# Altium schematic symbol library pporyzala-TI_Lighting.SchLib: 745 symbols (part 10 of 48)
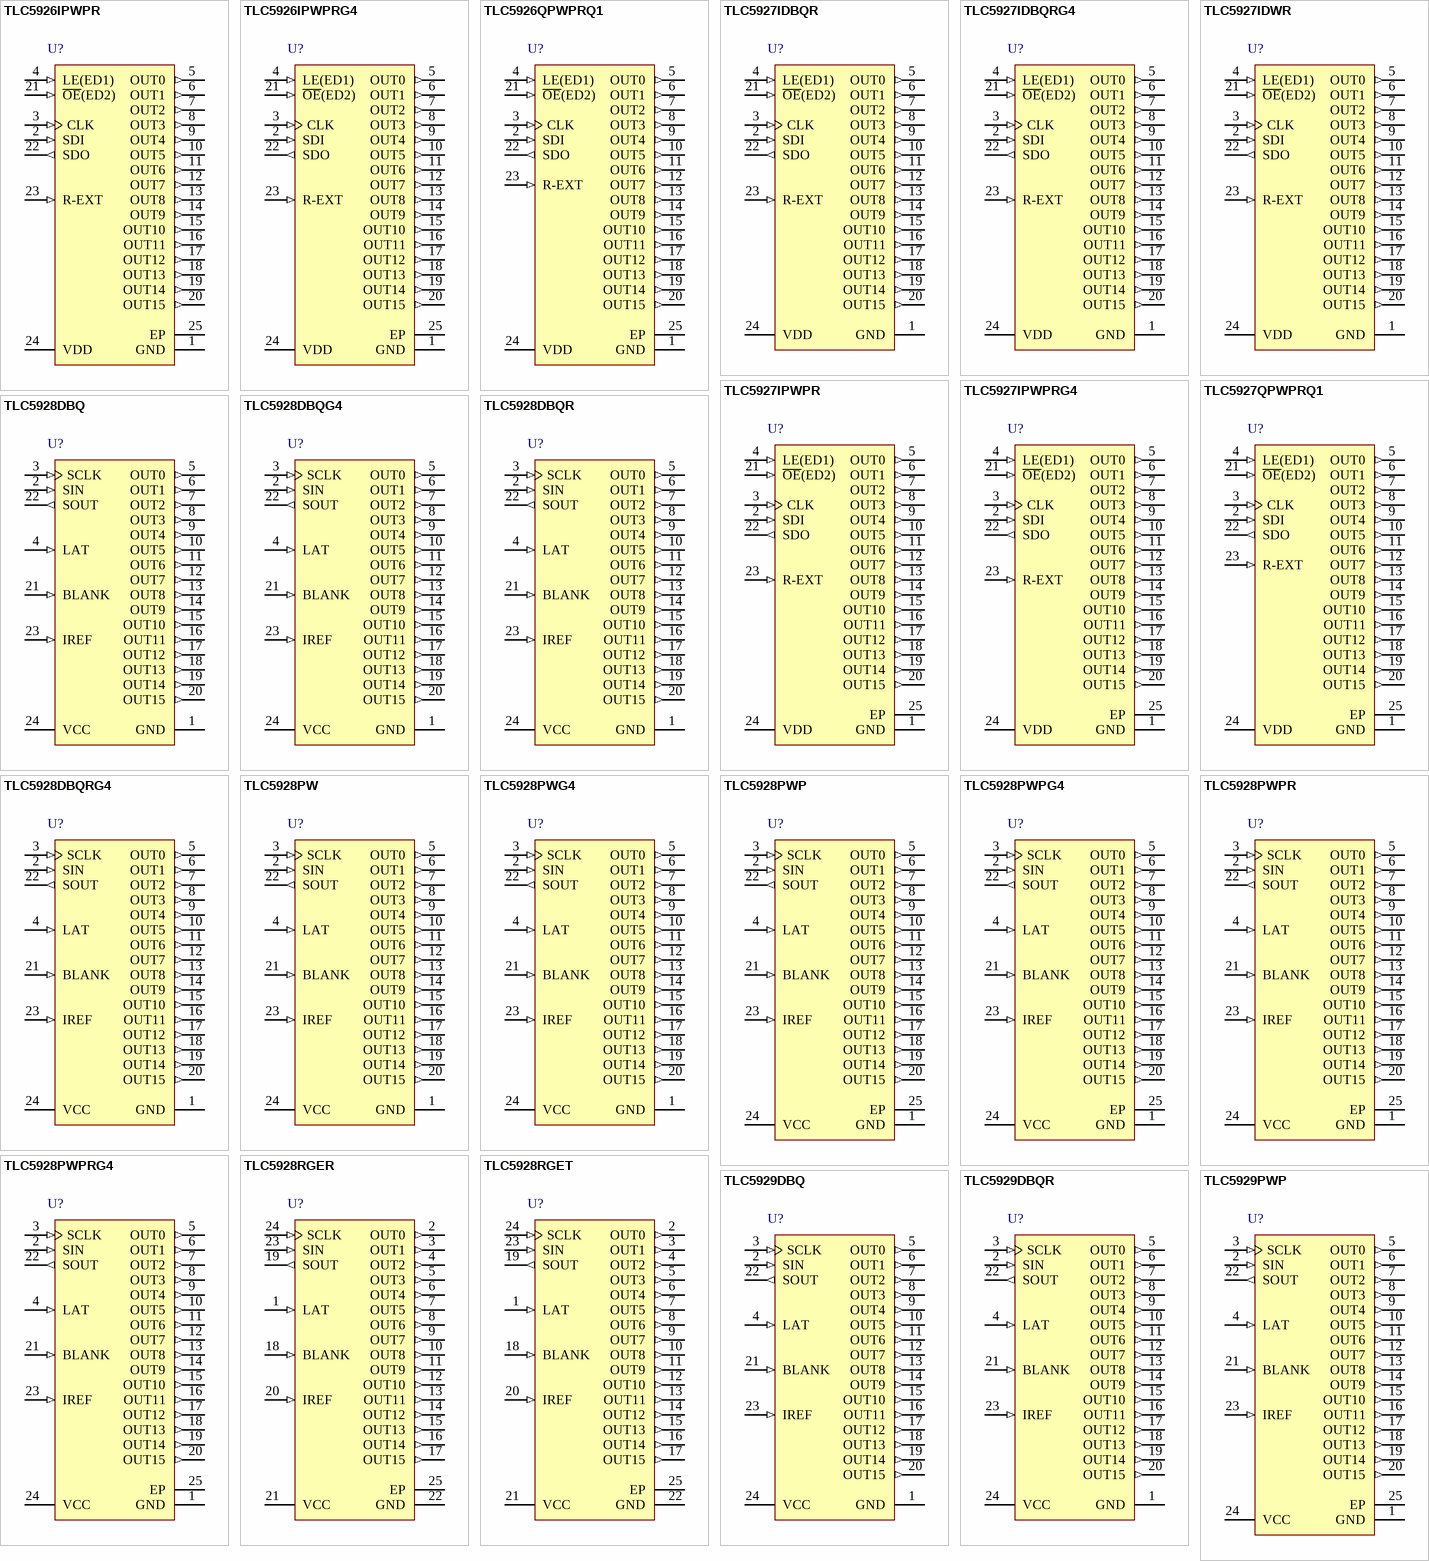
[diagram p40: symbols TLC5926IPWPR to TLC5929PWP]

## TLC5928DBQG4
designator U?
16-Channel Constant Current LED Driver with LED Open Detection, 3 to 5.5 V, -40 to 85 degC, 24-pin SOP (DBQ24), Green (RoHS & no Sb/Br); Manufacturer: Texas Instruments; PartNumber: TLC5928DBQG4; Rating: Catalog; Vin(Max)(V): 5.5; Vin(Min)(V): 3; DatasheetVersion: SBVS120E; PackageVersion: 4073301-4/H; PackageReference: DBQ24; PackageDescription: 24-Pin Plastic Small-Outline, Body 8.65 x 3.90 mm, Pitch 0.635 mm; Supplier 1: Digi-Key; Supplier Part Number 1: TLC5928DBQG4-ND; Supplier 2: Mouser; Supplier Part Number 2: 595-TLC5928DBQG4; Eco-Plan: Green (RoHS & no Sb/Br); SubFamily: LED Driver; Mounting Technology: Surface Mount; Code_JEDEC: MO-137; ComponentLink1Description: Manufacturer URL; ComponentLink1URL: http://www.ti.com/; ComponentLink2Description: Datasheet; ComponentLink2URL: http://www.ti.com/general/docs/lit/getliterature.tsp?genericPartNumber=TLC5928&fileType=pdf; ComponentLink3Description: Package Specification; ComponentLink3URL: http://www.ti.com/litv/pdf/mpds211a
footprint TI-DBQ24_N (SOP, 24-Leads, Body 8.65x6mm, Pitch 0.635mm, IPC Medium Density)
footprint TI-DBQ24_L (SOP, 24-Leads, Body 8.65x6mm, Pitch 0.635mm, IPC High Density)
footprint TI-DBQ24_M (SOP, 24-Leads, Body 8.65x6mm, Pitch 0.635mm, IPC Low Density)
pins: 1 GND (power) "Power ground", 2 SIN (in) "Serial data input for driver on/off control. When SIN=high level, data '1' are written into LSB of the on/off control shift register at the rising edge of SCLK.", 3 SCLK (in) "Serial data shift clock. Schmitt buffer input. All data in the on/off control shift register are shifted toward the MSB by 1-bit synchronization of SCLK. A rising edge on SCLK is allowed 100 ns after a rising edge of LAT.", 4 LAT (in) "Edge triggered latch. The data in the on/off control data shift register are transferred to the on/off control data latch at this rising edge. At the same time, the data in the on/off control shift register are replaced with (See Datasheet)", 5 OUT0 (out) "Constant-current output.Each output can be tied together with others to increase the Constant-current. Different voltages can be applied to each output.", 6 OUT1 (out) "Constant-current output", 7 OUT2 (out) "Constant-current output", 8 OUT3 (out) "Constant-current output", 9 OUT4 (out) "Constant-current output", 10 OUT5 (out) "Constant-current output", 11 OUT6 (out) "Constant-current output", 12 OUT7 (out) "Constant-current output", 13 OUT8 (out) "Constant-current output", 14 OUT9 (out) "Constant-current output", 15 OUT10 (out) "Constant-current output", 16 OUT11 (out) "Constant-current output", 17 OUT12 (out) "Constant-current output", 18 OUT13 (out) "Constant-current output", 19 OUT14 (out) "Constant-current output", 20 OUT15 (out) "Constant-current output", 21 BLANK (in) "Blank, all outputs. When BLANK = high level, all constant-current outputs (OUT0-OUT15) are forced off.When BLANK=low level, all constant-current outputs are controlled by the on/off control data in the data latch.LOD and PTW (See Datasheet)", 22 SOUT (out) "Serial data onput. This output is connected to the MSB of the on/off data shift register .SOUT data changes at the rising edge of SCLK.", 23 IREF (in) "Constant-current value setting.OUT0-OUT15 sink Constant-current is set to desired value by connection to an external resistor between IREF and GND.", 24 VCC (power) "Power-supply voltage"

## TLC5928DBQR
designator U?
16-Channel Constant Current LED Driver with LED Open Detection, 3 to 5.5 V, -40 to 85 degC, 24-pin SOP (DBQ24), Green (RoHS & no Sb/Br); Manufacturer: Texas Instruments; PartNumber: TLC5928DBQR; Rating: Catalog; Vin(Max)(V): 5.5; Vin(Min)(V): 3; DatasheetVersion: SBVS120E; PackageVersion: 4073301-4/H; PackageReference: DBQ24; PackageDescription: 24-Pin Plastic Small-Outline, Body 8.65 x 3.90 mm, Pitch 0.635 mm; Supplier 1: Digi-Key; Supplier Part Number 1: 296-23653-2-ND; Supplier 2: Digi-Key; Supplier Part Number 2: 296-23653-1-ND; Supplier 3: Digi-Key; Supplier Part Number 3: 296-23653-6-ND; Supplier 4: Farnell; Supplier Part Number 4: 1697163; Supplier 5: Newark; Supplier Part Number 5: 03P1637; Supplier 6: Mouser; Supplier Part Number 6: 595-TLC5928DBQR; Eco-Plan: Green (RoHS & no Sb/Br); SubFamily: LED Driver; Mounting Technology: Surface Mount; Code_JEDEC: MO-137; ComponentLink1Description: Manufacturer URL; ComponentLink1URL: http://www.ti.com/; ComponentLink2Description: Datasheet; ComponentLink2URL: http://www.ti.com/general/docs/lit/getliterature.tsp?genericPartNumber=TLC5928&fileType=pdf; ComponentLink3Description: Package Specification; ComponentLink3URL: http://www.ti.com/litv/pdf/mpds211a
footprint TI-DBQ24_N (SOP, 24-Leads, Body 8.65x6mm, Pitch 0.635mm, IPC Medium Density)
footprint TI-DBQ24_L (SOP, 24-Leads, Body 8.65x6mm, Pitch 0.635mm, IPC High Density)
footprint TI-DBQ24_M (SOP, 24-Leads, Body 8.65x6mm, Pitch 0.635mm, IPC Low Density)
pins: 1 GND (power) "Power ground", 2 SIN (in) "Serial data input for driver on/off control. When SIN=high level, data '1' are written into LSB of the on/off control shift register at the rising edge of SCLK.", 3 SCLK (in) "Serial data shift clock. Schmitt buffer input. All data in the on/off control shift register are shifted toward the MSB by 1-bit synchronization of SCLK. A rising edge on SCLK is allowed 100 ns after a rising edge of LAT.", 4 LAT (in) "Edge triggered latch. The data in the on/off control data shift register are transferred to the on/off control data latch at this rising edge. At the same time, the data in the on/off control shift register are replaced with (See Datasheet)", 5 OUT0 (out) "Constant-current output.Each output can be tied together with others to increase the Constant-current. Different voltages can be applied to each output.", 6 OUT1 (out) "Constant-current output", 7 OUT2 (out) "Constant-current output", 8 OUT3 (out) "Constant-current output", 9 OUT4 (out) "Constant-current output", 10 OUT5 (out) "Constant-current output", 11 OUT6 (out) "Constant-current output", 12 OUT7 (out) "Constant-current output", 13 OUT8 (out) "Constant-current output", 14 OUT9 (out) "Constant-current output", 15 OUT10 (out) "Constant-current output", 16 OUT11 (out) "Constant-current output", 17 OUT12 (out) "Constant-current output", 18 OUT13 (out) "Constant-current output", 19 OUT14 (out) "Constant-current output", 20 OUT15 (out) "Constant-current output", 21 BLANK (in) "Blank, all outputs. When BLANK = high level, all constant-current outputs (OUT0-OUT15) are forced off.When BLANK=low level, all constant-current outputs are controlled by the on/off control data in the data latch.LOD and PTW (See Datasheet)", 22 SOUT (out) "Serial data onput. This output is connected to the MSB of the on/off data shift register .SOUT data changes at the rising edge of SCLK.", 23 IREF (in) "Constant-current value setting.OUT0-OUT15 sink Constant-current is set to desired value by connection to an external resistor between IREF and GND.", 24 VCC (power) "Power-supply voltage"

## TLC5928DBQRG4
designator U?
16-Channel Constant Current LED Driver with LED Open Detection, 3 to 5.5 V, -40 to 85 degC, 24-pin SOP (DBQ24), Green (RoHS & no Sb/Br); Manufacturer: Texas Instruments; PartNumber: TLC5928DBQRG4; Rating: Catalog; Vin(Max)(V): 5.5; Vin(Min)(V): 3; DatasheetVersion: SBVS120E; PackageVersion: 4073301-4/H; PackageReference: DBQ24; PackageDescription: 24-Pin Plastic Small-Outline, Body 8.65 x 3.90 mm, Pitch 0.635 mm; Supplier 1: Digi-Key; Supplier Part Number 1: TLC5928DBQRG4-ND; Supplier 2: Mouser; Supplier Part Number 2: 595-TLC5928DBQRG4; Eco-Plan: Green (RoHS & no Sb/Br); SubFamily: LED Driver; Mounting Technology: Surface Mount; Code_JEDEC: MO-137; ComponentLink1Description: Manufacturer URL; ComponentLink1URL: http://www.ti.com/; ComponentLink2Description: Datasheet; ComponentLink2URL: http://www.ti.com/general/docs/lit/getliterature.tsp?genericPartNumber=TLC5928&fileType=pdf; ComponentLink3Description: Package Specification; ComponentLink3URL: http://www.ti.com/litv/pdf/mpds211a
footprint TI-DBQ24_N (SOP, 24-Leads, Body 8.65x6mm, Pitch 0.635mm, IPC Medium Density)
footprint TI-DBQ24_L (SOP, 24-Leads, Body 8.65x6mm, Pitch 0.635mm, IPC High Density)
footprint TI-DBQ24_M (SOP, 24-Leads, Body 8.65x6mm, Pitch 0.635mm, IPC Low Density)
pins: 1 GND (power) "Power ground", 2 SIN (in) "Serial data input for driver on/off control. When SIN=high level, data '1' are written into LSB of the on/off control shift register at the rising edge of SCLK.", 3 SCLK (in) "Serial data shift clock. Schmitt buffer input. All data in the on/off control shift register are shifted toward the MSB by 1-bit synchronization of SCLK. A rising edge on SCLK is allowed 100 ns after a rising edge of LAT.", 4 LAT (in) "Edge triggered latch. The data in the on/off control data shift register are transferred to the on/off control data latch at this rising edge. At the same time, the data in the on/off control shift register are replaced with (See Datasheet)", 5 OUT0 (out) "Constant-current output.Each output can be tied together with others to increase the Constant-current. Different voltages can be applied to each output.", 6 OUT1 (out) "Constant-current output", 7 OUT2 (out) "Constant-current output", 8 OUT3 (out) "Constant-current output", 9 OUT4 (out) "Constant-current output", 10 OUT5 (out) "Constant-current output", 11 OUT6 (out) "Constant-current output", 12 OUT7 (out) "Constant-current output", 13 OUT8 (out) "Constant-current output", 14 OUT9 (out) "Constant-current output", 15 OUT10 (out) "Constant-current output", 16 OUT11 (out) "Constant-current output", 17 OUT12 (out) "Constant-current output", 18 OUT13 (out) "Constant-current output", 19 OUT14 (out) "Constant-current output", 20 OUT15 (out) "Constant-current output", 21 BLANK (in) "Blank, all outputs. When BLANK = high level, all constant-current outputs (OUT0-OUT15) are forced off.When BLANK=low level, all constant-current outputs are controlled by the on/off control data in the data latch.LOD and PTW (See Datasheet)", 22 SOUT (out) "Serial data onput. This output is connected to the MSB of the on/off data shift register .SOUT data changes at the rising edge of SCLK.", 23 IREF (in) "Constant-current value setting.OUT0-OUT15 sink Constant-current is set to desired value by connection to an external resistor between IREF and GND.", 24 VCC (power) "Power-supply voltage"

## TLC5928PW
designator U?
16-Channel Constant Current LED Driver with LED Open Detection, 3 to 5.5 V, -40 to 85 degC, 24-pin SOP (PW24), Green (RoHS & no Sb/Br); Manufacturer: Texas Instruments; PartNumber: TLC5928PW; Rating: Catalog; Vin(Max)(V): 5.5; Vin(Min)(V): 3; DatasheetVersion: SBVS120E; PackageVersion: 4040064-6/G; PackageReference: PW24; PackageDescription: 24-Pin Plastic Small Outline, Body 7.8 x 4.4 mm, Pitch 0.65 mm; Supplier 1: Digi-Key; Supplier Part Number 1: 296-23819-5-ND; Supplier 2: Mouser; Supplier Part Number 2: 595-TLC5928PW; Eco-Plan: Green (RoHS & no Sb/Br); SubFamily: LED Driver; Mounting Technology: Surface Mount; Code_JEDEC: MO-153; ComponentLink1Description: Manufacturer URL; ComponentLink1URL: http://www.ti.com/; ComponentLink2Description: Datasheet; ComponentLink2URL: http://www.ti.com/general/docs/lit/getliterature.tsp?genericPartNumber=TLC5928&fileType=pdf; ComponentLink3Description: Package Specification; ComponentLink3URL: http://www.ti.com/litv/pdf/mpds363
footprint TI-PW24_N (SOP, 24-Leads, Body 7.8x4.4mm, Pitch 0.65mm, , IPC Medium Density)
footprint TI-PW24_L (SOP, 24-Leads, Body 7.8x4.4mm, Pitch 0.65mm, , IPC High Density)
footprint TI-PW24_M (SOP, 24-Leads, Body 7.8x4.4mm, Pitch 0.65mm, , IPC Low Density)
pins: 1 GND (power) "Power ground", 2 SIN (in) "Serial data input for driver on/off control. When SIN=high level, data '1' are written into LSB of the on/off control shift register at the rising edge of SCLK.", 3 SCLK (in) "Serial data shift clock. Schmitt buffer input. All data in the on/off control shift register are shifted toward the MSB by 1-bit synchronization of SCLK. A rising edge on SCLK is allowed 100 ns after a rising edge of LAT.", 4 LAT (in) "Edge triggered latch. The data in the on/off control data shift register are transferred to the on/off control data latch at this rising edge. At the same time, the data in the on/off control shift register are replaced with (See Datasheet)", 5 OUT0 (out) "Constant-current output.Each output can be tied together with others to increase the Constant-current. Different voltages can be applied to each output.", 6 OUT1 (out) "Constant-current output", 7 OUT2 (out) "Constant-current output", 8 OUT3 (out) "Constant-current output", 9 OUT4 (out) "Constant-current output", 10 OUT5 (out) "Constant-current output", 11 OUT6 (out) "Constant-current output", 12 OUT7 (out) "Constant-current output", 13 OUT8 (out) "Constant-current output", 14 OUT9 (out) "Constant-current output", 15 OUT10 (out) "Constant-current output", 16 OUT11 (out) "Constant-current output", 17 OUT12 (out) "Constant-current output", 18 OUT13 (out) "Constant-current output", 19 OUT14 (out) "Constant-current output", 20 OUT15 (out) "Constant-current output", 21 BLANK (in) "Blank, all outputs. When BLANK = high level, all constant-current outputs (OUT0-OUT15) are forced off.When BLANK=low level, all constant-current outputs are controlled by the on/off control data in the data latch.LOD and PTW (See Datasheet)", 22 SOUT (out) "Serial data onput. This output is connected to the MSB of the on/off data shift register .SOUT data changes at the rising edge of SCLK.", 23 IREF (in) "Constant-current value setting.OUT0-OUT15 sink Constant-current is set to desired value by connection to an external resistor between IREF and GND.", 24 VCC (power) "Power-supply voltage"

## TLC5928PWG4
designator U?
16-Channel Constant Current LED Driver with LED Open Detection, 3 to 5.5 V, -40 to 85 degC, 24-pin SOP (PW24), Green (RoHS & no Sb/Br); Manufacturer: Texas Instruments; PartNumber: TLC5928PWG4; Rating: Catalog; Vin(Max)(V): 5.5; Vin(Min)(V): 3; DatasheetVersion: SBVS120E; PackageVersion: 4040064-6/G; PackageReference: PW24; PackageDescription: 24-Pin Plastic Small Outline, Body 7.8 x 4.4 mm, Pitch 0.65 mm; Supplier 1: Digi-Key; Supplier Part Number 1: TLC5928PWG4-ND; Supplier 2: Mouser; Supplier Part Number 2: 595-TLC5928PWG4; Eco-Plan: Green (RoHS & no Sb/Br); SubFamily: LED Driver; Mounting Technology: Surface Mount; Code_JEDEC: MO-153; ComponentLink1Description: Manufacturer URL; ComponentLink1URL: http://www.ti.com/; ComponentLink2Description: Datasheet; ComponentLink2URL: http://www.ti.com/general/docs/lit/getliterature.tsp?genericPartNumber=TLC5928&fileType=pdf; ComponentLink3Description: Package Specification; ComponentLink3URL: http://www.ti.com/litv/pdf/mpds363
footprint TI-PW24_N (SOP, 24-Leads, Body 7.8x4.4mm, Pitch 0.65mm, , IPC Medium Density)
footprint TI-PW24_L (SOP, 24-Leads, Body 7.8x4.4mm, Pitch 0.65mm, , IPC High Density)
footprint TI-PW24_M (SOP, 24-Leads, Body 7.8x4.4mm, Pitch 0.65mm, , IPC Low Density)
pins: 1 GND (power) "Power ground", 2 SIN (in) "Serial data input for driver on/off control. When SIN=high level, data '1' are written into LSB of the on/off control shift register at the rising edge of SCLK.", 3 SCLK (in) "Serial data shift clock. Schmitt buffer input. All data in the on/off control shift register are shifted toward the MSB by 1-bit synchronization of SCLK. A rising edge on SCLK is allowed 100 ns after a rising edge of LAT.", 4 LAT (in) "Edge triggered latch. The data in the on/off control data shift register are transferred to the on/off control data latch at this rising edge. At the same time, the data in the on/off control shift register are replaced with (See Datasheet)", 5 OUT0 (out) "Constant-current output.Each output can be tied together with others to increase the Constant-current. Different voltages can be applied to each output.", 6 OUT1 (out) "Constant-current output", 7 OUT2 (out) "Constant-current output", 8 OUT3 (out) "Constant-current output", 9 OUT4 (out) "Constant-current output", 10 OUT5 (out) "Constant-current output", 11 OUT6 (out) "Constant-current output", 12 OUT7 (out) "Constant-current output", 13 OUT8 (out) "Constant-current output", 14 OUT9 (out) "Constant-current output", 15 OUT10 (out) "Constant-current output", 16 OUT11 (out) "Constant-current output", 17 OUT12 (out) "Constant-current output", 18 OUT13 (out) "Constant-current output", 19 OUT14 (out) "Constant-current output", 20 OUT15 (out) "Constant-current output", 21 BLANK (in) "Blank, all outputs. When BLANK = high level, all constant-current outputs (OUT0-OUT15) are forced off.When BLANK=low level, all constant-current outputs are controlled by the on/off control data in the data latch.LOD and PTW (See Datasheet)", 22 SOUT (out) "Serial data onput. This output is connected to the MSB of the on/off data shift register .SOUT data changes at the rising edge of SCLK.", 23 IREF (in) "Constant-current value setting.OUT0-OUT15 sink Constant-current is set to desired value by connection to an external resistor between IREF and GND.", 24 VCC (power) "Power-supply voltage"

## TLC5928PWP
designator U?
16-Channel Constant Current LED Driver with LED Open Detection, 3 to 5.5 V, -40 to 85 degC, 24-pin SOP (PWP24), Green (RoHS & no Sb/Br); Manufacturer: Texas Instruments; PartNumber: TLC5928PWP; Rating: Catalog; Vin(Max)(V): 5.5; Vin(Min)(V): 3; DatasheetVersion: SBVS120E; PackageVersion: 4073225-5/I; PackageReference: PWP24-4420X1950TP; PackageDescription: 24-Lead, Plastic Small Outline, Body Size 4.4 x 7.8 mm, Pitch 0.65 mm; Supplier 1: Digi-Key; Supplier Part Number 1: 296-34377-5-ND; Supplier 2: Newark; Supplier Part Number 2: 07P9779; Supplier 3: Mouser; Supplier Part Number 3: 595-TLC5928PWP; Eco-Plan: Green (RoHS & no Sb/Br); SubFamily: LED Driver; Mounting Technology: Surface Mount; Code_JEDEC: MO-153; ComponentLink1Description: Manufacturer URL; ComponentLink1URL: http://www.ti.com/; ComponentLink2Description: Datasheet; ComponentLink2URL: http://www.ti.com/general/docs/lit/getliterature.tsp?genericPartNumber=TLC5928&fileType=pdf; ComponentLink3Description: Package Specification; ComponentLink3URL: http://www.ti.com/lit/ds/symlink/tps65101.pdf
footprint TI-PWP24-4420X1950TP_N (SOP, 24-Leads, Body 7.8x4.4mm, Pitch 0.65mm, Thermal Pad 4.42x1.95mm, IPC Medium Density)
footprint TI-PWP24-4420X1950TP_L (SOP, 24-Leads, Body 7.8x4.4mm, Pitch 0.65mm, Thermal Pad 4.42x1.95mm, IPC High Density)
footprint TI-PWP24-4420X1950TP_M (SOP, 24-Leads, Body 7.8x4.4mm, Pitch 0.65mm, Thermal Pad 4.42x1.95mm, IPC Low Density)
pins: 1 GND (power) "Power ground", 2 SIN (in) "Serial data input for driver on/off control. When SIN=high level, data '1' are written into LSB of the on/off control shift register at the rising edge of SCLK.", 3 SCLK (in) "Serial data shift clock. Schmitt buffer input. All data in the on/off control shift register are shifted toward the MSB by 1-bit synchronization of SCLK. A rising edge on SCLK is allowed 100 ns after a rising edge of LAT.", 4 LAT (in) "Edge triggered latch. The data in the on/off control data shift register are transferred to the on/off control data latch at this rising edge. At the same time, the data in the on/off control shift register are replaced with (See Datasheet)", 5 OUT0 (out) "Constant-current output.Each output can be tied together with others to increase the Constant-current. Different voltages can be applied to each output.", 6 OUT1 (out) "Constant-current output", 7 OUT2 (out) "Constant-current output", 8 OUT3 (out) "Constant-current output", 9 OUT4 (out) "Constant-current output", 10 OUT5 (out) "Constant-current output", 11 OUT6 (out) "Constant-current output", 12 OUT7 (out) "Constant-current output", 13 OUT8 (out) "Constant-current output", 14 OUT9 (out) "Constant-current output", 15 OUT10 (out) "Constant-current output", 16 OUT11 (out) "Constant-current output", 17 OUT12 (out) "Constant-current output", 18 OUT13 (out) "Constant-current output", 19 OUT14 (out) "Constant-current output", 20 OUT15 (out) "Constant-current output", 21 BLANK (in) "Blank, all outputs. When BLANK = high level, all constant-current outputs (OUT0-OUT15) are forced off.When BLANK=low level, all constant-current outputs are controlled by the on/off control data in the data latch.LOD and PTW (See Datasheet)", 22 SOUT (out) "Serial data onput. This output is connected to the MSB of the on/off data shift register .SOUT data changes at the rising edge of SCLK.", 23 IREF (in) "Constant-current value setting.OUT0-OUT15 sink Constant-current is set to desired value by connection to an external resistor between IREF and GND.", 24 VCC (power) "Power-supply voltage", 25 EP (power) "Thermal pad is not connected to GND internally. The thermal pad must be connected to GND via the PCB pattern."

## TLC5928PWPG4
designator U?
16-Channel Constant Current LED Driver with LED Open Detection, 3 to 5.5 V, -40 to 85 degC, 24-pin SOP (PWP24), Green (RoHS & no Sb/Br); Manufacturer: Texas Instruments; PartNumber: TLC5928PWPG4; Rating: Catalog; Vin(Max)(V): 5.5; Vin(Min)(V): 3; DatasheetVersion: SBVS120E; PackageVersion: 4073225-5/I; PackageReference: PWP24-4420X1950TP; PackageDescription: 24-Lead, Plastic Small Outline, Body Size 4.4 x 7.8 mm, Pitch 0.65 mm; Supplier 1: Digi-Key; Supplier Part Number 1: TLC5928PWPG4-ND; Supplier 2: Mouser; Supplier Part Number 2: 595-TLC5928PWPG4; Eco-Plan: Green (RoHS & no Sb/Br); SubFamily: LED Driver; Mounting Technology: Surface Mount; Code_JEDEC: MO-153; ComponentLink1Description: Manufacturer URL; ComponentLink1URL: http://www.ti.com/; ComponentLink2Description: Datasheet; ComponentLink2URL: http://www.ti.com/general/docs/lit/getliterature.tsp?genericPartNumber=TLC5928&fileType=pdf; ComponentLink3Description: Package Specification; ComponentLink3URL: http://www.ti.com/lit/ds/symlink/tps65101.pdf
footprint TI-PWP24-4420X1950TP_N (SOP, 24-Leads, Body 7.8x4.4mm, Pitch 0.65mm, Thermal Pad 4.42x1.95mm, IPC Medium Density)
footprint TI-PWP24-4420X1950TP_L (SOP, 24-Leads, Body 7.8x4.4mm, Pitch 0.65mm, Thermal Pad 4.42x1.95mm, IPC High Density)
footprint TI-PWP24-4420X1950TP_M (SOP, 24-Leads, Body 7.8x4.4mm, Pitch 0.65mm, Thermal Pad 4.42x1.95mm, IPC Low Density)
pins: 1 GND (power) "Power ground", 2 SIN (in) "Serial data input for driver on/off control. When SIN=high level, data '1' are written into LSB of the on/off control shift register at the rising edge of SCLK.", 3 SCLK (in) "Serial data shift clock. Schmitt buffer input. All data in the on/off control shift register are shifted toward the MSB by 1-bit synchronization of SCLK. A rising edge on SCLK is allowed 100 ns after a rising edge of LAT.", 4 LAT (in) "Edge triggered latch. The data in the on/off control data shift register are transferred to the on/off control data latch at this rising edge. At the same time, the data in the on/off control shift register are replaced with (See Datasheet)", 5 OUT0 (out) "Constant-current output.Each output can be tied together with others to increase the Constant-current. Different voltages can be applied to each output.", 6 OUT1 (out) "Constant-current output", 7 OUT2 (out) "Constant-current output", 8 OUT3 (out) "Constant-current output", 9 OUT4 (out) "Constant-current output", 10 OUT5 (out) "Constant-current output", 11 OUT6 (out) "Constant-current output", 12 OUT7 (out) "Constant-current output", 13 OUT8 (out) "Constant-current output", 14 OUT9 (out) "Constant-current output", 15 OUT10 (out) "Constant-current output", 16 OUT11 (out) "Constant-current output", 17 OUT12 (out) "Constant-current output", 18 OUT13 (out) "Constant-current output", 19 OUT14 (out) "Constant-current output", 20 OUT15 (out) "Constant-current output", 21 BLANK (in) "Blank, all outputs. When BLANK = high level, all constant-current outputs (OUT0-OUT15) are forced off.When BLANK=low level, all constant-current outputs are controlled by the on/off control data in the data latch.LOD and PTW (See Datasheet)", 22 SOUT (out) "Serial data onput. This output is connected to the MSB of the on/off data shift register .SOUT data changes at the rising edge of SCLK.", 23 IREF (in) "Constant-current value setting.OUT0-OUT15 sink Constant-current is set to desired value by connection to an external resistor between IREF and GND.", 24 VCC (power) "Power-supply voltage", 25 EP (power) "Thermal pad is not connected to GND internally. The thermal pad must be connected to GND via the PCB pattern."

## TLC5928PWPR
designator U?
16-Channel Constant Current LED Driver with LED Open Detection, 3 to 5.5 V, -40 to 85 degC, 24-pin SOP (PWP24), Green (RoHS & no Sb/Br); Manufacturer: Texas Instruments; PartNumber: TLC5928PWPR; Rating: Catalog; Vin(Max)(V): 5.5; Vin(Min)(V): 3; DatasheetVersion: SBVS120E; PackageVersion: 4073225-5/I; PackageReference: PWP24-4420X1950TP; PackageDescription: 24-Lead, Plastic Small Outline, Body Size 4.4 x 7.8 mm, Pitch 0.65 mm; Supplier 1: Digi-Key; Supplier Part Number 1: 296-23654-2-ND; Supplier 2: Digi-Key; Supplier Part Number 2: 296-23654-1-ND; Supplier 3: Digi-Key; Supplier Part Number 3: 296-23654-6-ND; Supplier 4: Farnell; Supplier Part Number 4: 1697164RL; Supplier 5: Farnell; Supplier Part Number 5: 1697164; Supplier 6: Newark; Supplier Part Number 6: 03P1638; Supplier 7: Mouser; Supplier Part Number 7: 595-TLC5928PWPR; Eco-Plan: Green (RoHS & no Sb/Br); SubFamily: LED Driver; Mounting Technology: Surface Mount; Code_JEDEC: MO-153; ComponentLink1Description: Manufacturer URL; ComponentLink1URL: http://www.ti.com/; ComponentLink2Description: Datasheet; ComponentLink2URL: http://www.ti.com/general/docs/lit/getliterature.tsp?genericPartNumber=TLC5928&fileType=pdf; ComponentLink3Description: Package Specification; ComponentLink3URL: http://www.ti.com/lit/ds/symlink/tps65101.pdf
footprint TI-PWP24-4420X1950TP_N (SOP, 24-Leads, Body 7.8x4.4mm, Pitch 0.65mm, Thermal Pad 4.42x1.95mm, IPC Medium Density)
footprint TI-PWP24-4420X1950TP_L (SOP, 24-Leads, Body 7.8x4.4mm, Pitch 0.65mm, Thermal Pad 4.42x1.95mm, IPC High Density)
footprint TI-PWP24-4420X1950TP_M (SOP, 24-Leads, Body 7.8x4.4mm, Pitch 0.65mm, Thermal Pad 4.42x1.95mm, IPC Low Density)
pins: 1 GND (power) "Power ground", 2 SIN (in) "Serial data input for driver on/off control. When SIN=high level, data '1' are written into LSB of the on/off control shift register at the rising edge of SCLK.", 3 SCLK (in) "Serial data shift clock. Schmitt buffer input. All data in the on/off control shift register are shifted toward the MSB by 1-bit synchronization of SCLK. A rising edge on SCLK is allowed 100 ns after a rising edge of LAT.", 4 LAT (in) "Edge triggered latch. The data in the on/off control data shift register are transferred to the on/off control data latch at this rising edge. At the same time, the data in the on/off control shift register are replaced with (See Datasheet)", 5 OUT0 (out) "Constant-current output.Each output can be tied together with others to increase the Constant-current. Different voltages can be applied to each output.", 6 OUT1 (out) "Constant-current output", 7 OUT2 (out) "Constant-current output", 8 OUT3 (out) "Constant-current output", 9 OUT4 (out) "Constant-current output", 10 OUT5 (out) "Constant-current output", 11 OUT6 (out) "Constant-current output", 12 OUT7 (out) "Constant-current output", 13 OUT8 (out) "Constant-current output", 14 OUT9 (out) "Constant-current output", 15 OUT10 (out) "Constant-current output", 16 OUT11 (out) "Constant-current output", 17 OUT12 (out) "Constant-current output", 18 OUT13 (out) "Constant-current output", 19 OUT14 (out) "Constant-current output", 20 OUT15 (out) "Constant-current output", 21 BLANK (in) "Blank, all outputs. When BLANK = high level, all constant-current outputs (OUT0-OUT15) are forced off.When BLANK=low level, all constant-current outputs are controlled by the on/off control data in the data latch.LOD and PTW (See Datasheet)", 22 SOUT (out) "Serial data onput. This output is connected to the MSB of the on/off data shift register .SOUT data changes at the rising edge of SCLK.", 23 IREF (in) "Constant-current value setting.OUT0-OUT15 sink Constant-current is set to desired value by connection to an external resistor between IREF and GND.", 24 VCC (power) "Power-supply voltage", 25 EP (power) "Thermal pad is not connected to GND internally. The thermal pad must be connected to GND via the PCB pattern."

## TLC5928PWPRG4
designator U?
16-Channel Constant Current LED Driver with LED Open Detection, 3 to 5.5 V, -40 to 85 degC, 24-pin SOP (PWP24), Green (RoHS & no Sb/Br); Manufacturer: Texas Instruments; PartNumber: TLC5928PWPRG4; Rating: Catalog; Vin(Max)(V): 5.5; Vin(Min)(V): 3; DatasheetVersion: SBVS120E; PackageVersion: 4073225-5/I; PackageReference: PWP24-4420X1950TP; PackageDescription: 24-Lead, Plastic Small Outline, Body Size 4.4 x 7.8 mm, Pitch 0.65 mm; Supplier 1: Digi-Key; Supplier Part Number 1: TLC5928PWPRG4-ND; Supplier 2: Mouser; Supplier Part Number 2: 595-TLC5928PWPRG4; Eco-Plan: Green (RoHS & no Sb/Br); SubFamily: LED Driver; Mounting Technology: Surface Mount; Code_JEDEC: MO-153; ComponentLink1Description: Manufacturer URL; ComponentLink1URL: http://www.ti.com/; ComponentLink2Description: Datasheet; ComponentLink2URL: http://www.ti.com/general/docs/lit/getliterature.tsp?genericPartNumber=TLC5928&fileType=pdf; ComponentLink3Description: Package Specification; ComponentLink3URL: http://www.ti.com/lit/ds/symlink/tps65101.pdf
footprint TI-PWP24-4420X1950TP_N (SOP, 24-Leads, Body 7.8x4.4mm, Pitch 0.65mm, Thermal Pad 4.42x1.95mm, IPC Medium Density)
footprint TI-PWP24-4420X1950TP_L (SOP, 24-Leads, Body 7.8x4.4mm, Pitch 0.65mm, Thermal Pad 4.42x1.95mm, IPC High Density)
footprint TI-PWP24-4420X1950TP_M (SOP, 24-Leads, Body 7.8x4.4mm, Pitch 0.65mm, Thermal Pad 4.42x1.95mm, IPC Low Density)
pins: 1 GND (power) "Power ground", 2 SIN (in) "Serial data input for driver on/off control. When SIN=high level, data '1' are written into LSB of the on/off control shift register at the rising edge of SCLK.", 3 SCLK (in) "Serial data shift clock. Schmitt buffer input. All data in the on/off control shift register are shifted toward the MSB by 1-bit synchronization of SCLK. A rising edge on SCLK is allowed 100 ns after a rising edge of LAT.", 4 LAT (in) "Edge triggered latch. The data in the on/off control data shift register are transferred to the on/off control data latch at this rising edge. At the same time, the data in the on/off control shift register are replaced with (See Datasheet)", 5 OUT0 (out) "Constant-current output.Each output can be tied together with others to increase the Constant-current. Different voltages can be applied to each output.", 6 OUT1 (out) "Constant-current output", 7 OUT2 (out) "Constant-current output", 8 OUT3 (out) "Constant-current output", 9 OUT4 (out) "Constant-current output", 10 OUT5 (out) "Constant-current output", 11 OUT6 (out) "Constant-current output", 12 OUT7 (out) "Constant-current output", 13 OUT8 (out) "Constant-current output", 14 OUT9 (out) "Constant-current output", 15 OUT10 (out) "Constant-current output", 16 OUT11 (out) "Constant-current output", 17 OUT12 (out) "Constant-current output", 18 OUT13 (out) "Constant-current output", 19 OUT14 (out) "Constant-current output", 20 OUT15 (out) "Constant-current output", 21 BLANK (in) "Blank, all outputs. When BLANK = high level, all constant-current outputs (OUT0-OUT15) are forced off.When BLANK=low level, all constant-current outputs are controlled by the on/off control data in the data latch.LOD and PTW (See Datasheet)", 22 SOUT (out) "Serial data onput. This output is connected to the MSB of the on/off data shift register .SOUT data changes at the rising edge of SCLK.", 23 IREF (in) "Constant-current value setting.OUT0-OUT15 sink Constant-current is set to desired value by connection to an external resistor between IREF and GND.", 24 VCC (power) "Power-supply voltage", 25 EP (power) "Thermal pad is not connected to GND internally. The thermal pad must be connected to GND via the PCB pattern."

## TLC5928RGER
designator U?
16-Channel Constant Current LED Driver with LED Open Detection, 3 to 5.5 V, -40 to 85 degC, 24-pin QFN (RGE24), Green (RoHS & no Sb/Br); Manufacturer: Texas Instruments; PartNumber: TLC5928RGER; Rating: Catalog; Vin(Max)(V): 5.5; Vin(Min)(V): 3; DatasheetVersion: SBVS120E; PackageVersion: 4204104/G; PackageReference: RGE24-2100X2100TP; PackageDescription: 24-Pin Plastic Flat Pack, Body 4 x 4 mm, Pitch 0.5 mm; Supplier 1: Digi-Key; Supplier Part Number 1: TLC5928RGER-ND; Supplier 2: Mouser; Supplier Part Number 2: 595-TLC5928RGER; Eco-Plan: Green (RoHS & no Sb/Br); SubFamily: LED Driver; Mounting Technology: Surface Mount; Code_JEDEC: MO-220; ComponentLink1Description: Manufacturer URL; ComponentLink1URL: http://www.ti.com/; ComponentLink2Description: Datasheet; ComponentLink2URL: http://www.ti.com/general/docs/lit/getliterature.tsp?genericPartNumber=TLC5928&fileType=pdf; ComponentLink3Description: Package Specification; ComponentLink3URL: http://www.ti.com/litv/pdf/mpqf124f
footprint TI-RGE24-2100X2100TP_V (QFN, 24-Leads, Body 4x4mm, Pitch 0.5mm, Thermal Pad 2.1x2.1mm)
pins: 1 LAT (in) "Edge triggered latch. The data in the on/off control data shift register are transferred to the on/off control data latch at this rising edge. At the same time, the data in the on/off control shift register are replaced with (See Datasheet)", 2 OUT0 (out) "Constant-current output.Each output can be tied together with others to increase the Constant-current. Different voltages can be applied to each output.", 3 OUT1 (out) "Constant-current output", 4 OUT2 (out) "Constant-current output", 5 OUT3 (out) "Constant-current output", 6 OUT4 (out) "Constant-current output", 7 OUT5 (out) "Constant-current output", 8 OUT6 (out) "Constant-current output", 9 OUT7 (out) "Constant-current output", 10 OUT8 (out) "Constant-current output", 11 OUT9 (out) "Constant-current output", 12 OUT10 (out) "Constant-current output", 13 OUT11 (out) "Constant-current output", 14 OUT12 (out) "Constant-current output", 15 OUT13 (out) "Constant-current output", 16 OUT14 (out) "Constant-current output", 17 OUT15 (out) "Constant-current output", 18 BLANK (in) "Blank, all outputs. When BLANK = high level, all constant-current outputs (OUT0-OUT15) are forced off.When BLANK=low level, all constant-current outputs are controlled by the on/off control data in the data latch.LOD and PTW (See Datasheet)", 19 SOUT (out) "Serial data onput. This output is connected to the MSB of the on/off data shift register .SOUT data changes at the rising edge of SCLK.", 20 IREF (in) "Constant-current value setting.OUT0-OUT15 sink Constant-current is set to desired value by connection to an external resistor between IREF and GND.", 21 VCC (power) "Power-supply voltage", 22 GND (power) "Power ground", 23 SIN (in) "Serial data input for driver on/off control. When SIN=high level, data '1' are written into LSB of the on/off control shift register at the rising edge of SCLK.", 24 SCLK (in) "Serial data shift clock. Schmitt buffer input. All data in the on/off control shift register are shifted toward the MSB by 1-bit synchronization of SCLK. A rising edge on SCLK is allowed 100 ns after a rising edge of LAT.", 25 EP (power) "Thermal pad is not connected to GND internally. The thermal pad must be connected to GND via the PCB pattern."

## TLC5928RGET
designator U?
16-Channel Constant Current LED Driver with LED Open Detection, 3 to 5.5 V, -40 to 85 degC, 24-pin QFN (RGE24), Green (RoHS & no Sb/Br); Manufacturer: Texas Instruments; PartNumber: TLC5928RGET; Rating: Catalog; Vin(Max)(V): 5.5; Vin(Min)(V): 3; DatasheetVersion: SBVS120E; PackageVersion: 4204104/G; PackageReference: RGE24-2100X2100TP; PackageDescription: 24-Pin Plastic Flat Pack, Body 4 x 4 mm, Pitch 0.5 mm; Supplier 1: Digi-Key; Supplier Part Number 1: 296-23922-2-ND; Supplier 2: Digi-Key; Supplier Part Number 2: 296-23922-1-ND; Supplier 3: Digi-Key; Supplier Part Number 3: 296-23922-6-ND; Supplier 4: Newark; Supplier Part Number 4: 34P6400; Supplier 5: Mouser; Supplier Part Number 5: 595-TLC5928RGET; Eco-Plan: Green (RoHS & no Sb/Br); SubFamily: LED Driver; Mounting Technology: Surface Mount; Code_JEDEC: MO-220; ComponentLink1Description: Manufacturer URL; ComponentLink1URL: http://www.ti.com/; ComponentLink2Description: Datasheet; ComponentLink2URL: http://www.ti.com/general/docs/lit/getliterature.tsp?genericPartNumber=TLC5928&fileType=pdf; ComponentLink3Description: Package Specification; ComponentLink3URL: http://www.ti.com/litv/pdf/mpqf124f
footprint TI-RGE24-2100X2100TP_V (QFN, 24-Leads, Body 4x4mm, Pitch 0.5mm, Thermal Pad 2.1x2.1mm)
pins: 1 LAT (in) "Edge triggered latch. The data in the on/off control data shift register are transferred to the on/off control data latch at this rising edge. At the same time, the data in the on/off control shift register are replaced with (See Datasheet)", 2 OUT0 (out) "Constant-current output.Each output can be tied together with others to increase the Constant-current. Different voltages can be applied to each output.", 3 OUT1 (out) "Constant-current output", 4 OUT2 (out) "Constant-current output", 5 OUT3 (out) "Constant-current output", 6 OUT4 (out) "Constant-current output", 7 OUT5 (out) "Constant-current output", 8 OUT6 (out) "Constant-current output", 9 OUT7 (out) "Constant-current output", 10 OUT8 (out) "Constant-current output", 11 OUT9 (out) "Constant-current output", 12 OUT10 (out) "Constant-current output", 13 OUT11 (out) "Constant-current output", 14 OUT12 (out) "Constant-current output", 15 OUT13 (out) "Constant-current output", 16 OUT14 (out) "Constant-current output", 17 OUT15 (out) "Constant-current output", 18 BLANK (in) "Blank, all outputs. When BLANK = high level, all constant-current outputs (OUT0-OUT15) are forced off.When BLANK=low level, all constant-current outputs are controlled by the on/off control data in the data latch.LOD and PTW (See Datasheet)", 19 SOUT (out) "Serial data onput. This output is connected to the MSB of the on/off data shift register .SOUT data changes at the rising edge of SCLK.", 20 IREF (in) "Constant-current value setting.OUT0-OUT15 sink Constant-current is set to desired value by connection to an external resistor between IREF and GND.", 21 VCC (power) "Power-supply voltage", 22 GND (power) "Power ground", 23 SIN (in) "Serial data input for driver on/off control. When SIN=high level, data '1' are written into LSB of the on/off control shift register at the rising edge of SCLK.", 24 SCLK (in) "Serial data shift clock. Schmitt buffer input. All data in the on/off control shift register are shifted toward the MSB by 1-bit synchronization of SCLK. A rising edge on SCLK is allowed 100 ns after a rising edge of LAT.", 25 EP (power) "Thermal pad is not connected to GND internally. The thermal pad must be connected to GND via the PCB pattern."

## TLC5929DBQ
designator U?
16-Channel Constant Current LED Driver with 7-Bit Global Brightness, Power-Save, and Self-Diagnostics, 3 to 5.5 V, -40 to 85 degC, 24-pin SOP (DBQ24), Green (RoHS & no Sb/Br); Manufacturer: Texas Instruments; PartNumber: TLC5929DBQ; Rating: Catalog; SubFamily: Signage/Linear; Vin(Max)(V): 5.5; Vin(Min)(V): 3; DatasheetVersion: SBVS159B; PackageVersion: 4073301-4/H; PackageReference: DBQ24; PackageDescription: 24-Pin Plastic Small-Outline, Body 8.65 x 3.90 mm, Pitch 0.635 mm; Supplier 1: Digi-Key; Supplier Part Number 1: 296-28533-5-ND; Supplier 2: Farnell; Supplier Part Number 2: 1898987; Supplier 3: Newark; Supplier Part Number 3: 46T8884; Supplier 4: Mouser; Supplier Part Number 4: 595-TLC5929DBQ; Eco-Plan: Green (RoHS & no Sb/Br); Mounting Technology: Surface Mount; Code_JEDEC: MO-137; ComponentLink1Description: Manufacturer URL; ComponentLink1URL: http://www.ti.com/; ComponentLink2Description: Datasheet; ComponentLink2URL: http://www.ti.com/general/docs/lit/getliterature.tsp?genericPartNumber=TLC5929&fileType=pdf; ComponentLink3Description: Package Specification; ComponentLink3URL: http://www.ti.com/litv/pdf/mpds211a
footprint TI-DBQ24_N (SOP, 24-Leads, Body 8.65x6mm, Pitch 0.635mm, IPC Medium Density)
footprint TI-DBQ24_L (SOP, 24-Leads, Body 8.65x6mm, Pitch 0.635mm, IPC High Density)
footprint TI-DBQ24_M (SOP, 24-Leads, Body 8.65x6mm, Pitch 0.635mm, IPC Low Density)
pins: 1 GND (power) "Power ground", 2 SIN (in) "Serial data input for driver on/off control. When SIN=high level, data '1' are written into LSB of the on/off control shift register at the rising edge of SCLK.", 3 SCLK (in) "Serial data shift clock. Schmitt buffer input. All data in the on/off control shift register are shifted toward the MSB by 1-bit synchronization of SCLK. A rising edge on SCLK is allowed 100 ns after a rising edge of LAT.", 4 LAT (in) "Edge triggered latch. The data in the on/off control data shift register are transferred to the on/off control data latch at this rising edge. At the same time, the data in the on/off control shift register are replaced with (See Datasheet)", 5 OUT0 (out) "Constant-current output.Each output can be tied together with others to increase the Constant-current. Different voltages can be applied to each output.", 6 OUT1 (out) "Constant-current output", 7 OUT2 (out) "Constant-current output", 8 OUT3 (out) "Constant-current output", 9 OUT4 (out) "Constant-current output", 10 OUT5 (out) "Constant-current output", 11 OUT6 (out) "Constant-current output", 12 OUT7 (out) "Constant-current output", 13 OUT8 (out) "Constant-current output", 14 OUT9 (out) "Constant-current output", 15 OUT10 (out) "Constant-current output", 16 OUT11 (out) "Constant-current output", 17 OUT12 (out) "Constant-current output", 18 OUT13 (out) "Constant-current output", 19 OUT14 (out) "Constant-current output", 20 OUT15 (out) "Constant-current output", 21 BLANK (in) "Blank, all outputs. When BLANK = high level, all constant-current outputs (OUT0-OUT15) are forced off.When BLANK=low level, all constant-current outputs are controlled by the on/off control data in the data latch.LOD and PTW (See Datasheet)", 22 SOUT (out) "Serial data onput. This output is connected to the MSB of the on/off data shift register .SOUT data changes at the rising edge of SCLK.", 23 IREF (in) "Constant-current value setting.OUT0-OUT15 sink Constant-current is set to desired value by connection to an external resistor between IREF and GND.", 24 VCC (power) "Power-supply voltage"

## TLC5929DBQR
designator U?
16-Channel Constant Current LED Driver with 7-Bit Global Brightness, Power-Save, and Self-Diagnostics, 3 to 5.5 V, -40 to 85 degC, 24-pin SOP (DBQ24), Green (RoHS & no Sb/Br); Manufacturer: Texas Instruments; PartNumber: TLC5929DBQR; Rating: Catalog; SubFamily: Signage/Linear; Vin(Max)(V): 5.5; Vin(Min)(V): 3; DatasheetVersion: SBVS159B; PackageVersion: 4073301-4/H; PackageReference: DBQ24; PackageDescription: 24-Pin Plastic Small-Outline, Body 8.65 x 3.90 mm, Pitch 0.635 mm; Supplier 1: Digi-Key; Supplier Part Number 1: 296-28974-2-ND; Supplier 2: Digi-Key; Supplier Part Number 2: 296-28974-1-ND; Supplier 3: Digi-Key; Supplier Part Number 3: 296-28974-6-ND; Supplier 4: Newark; Supplier Part Number 4: 52T8742; Supplier 5: Mouser; Supplier Part Number 5: 595-TLC5929DBQR; Eco-Plan: Green (RoHS & no Sb/Br); Mounting Technology: Surface Mount; Code_JEDEC: MO-137; ComponentLink1Description: Manufacturer URL; ComponentLink1URL: http://www.ti.com/; ComponentLink2Description: Datasheet; ComponentLink2URL: http://www.ti.com/general/docs/lit/getliterature.tsp?genericPartNumber=TLC5929&fileType=pdf; ComponentLink3Description: Package Specification; ComponentLink3URL: http://www.ti.com/litv/pdf/mpds211a
footprint TI-DBQ24_N (SOP, 24-Leads, Body 8.65x6mm, Pitch 0.635mm, IPC Medium Density)
footprint TI-DBQ24_L (SOP, 24-Leads, Body 8.65x6mm, Pitch 0.635mm, IPC High Density)
footprint TI-DBQ24_M (SOP, 24-Leads, Body 8.65x6mm, Pitch 0.635mm, IPC Low Density)
pins: 1 GND (power) "Power ground", 2 SIN (in) "Serial data input for driver on/off control. When SIN=high level, data '1' are written into LSB of the on/off control shift register at the rising edge of SCLK.", 3 SCLK (in) "Serial data shift clock. Schmitt buffer input. All data in the on/off control shift register are shifted toward the MSB by 1-bit synchronization of SCLK. A rising edge on SCLK is allowed 100 ns after a rising edge of LAT.", 4 LAT (in) "Edge triggered latch. The data in the on/off control data shift register are transferred to the on/off control data latch at this rising edge. At the same time, the data in the on/off control shift register are replaced with (See Datasheet)", 5 OUT0 (out) "Constant-current output.Each output can be tied together with others to increase the Constant-current. Different voltages can be applied to each output.", 6 OUT1 (out) "Constant-current output", 7 OUT2 (out) "Constant-current output", 8 OUT3 (out) "Constant-current output", 9 OUT4 (out) "Constant-current output", 10 OUT5 (out) "Constant-current output", 11 OUT6 (out) "Constant-current output", 12 OUT7 (out) "Constant-current output", 13 OUT8 (out) "Constant-current output", 14 OUT9 (out) "Constant-current output", 15 OUT10 (out) "Constant-current output", 16 OUT11 (out) "Constant-current output", 17 OUT12 (out) "Constant-current output", 18 OUT13 (out) "Constant-current output", 19 OUT14 (out) "Constant-current output", 20 OUT15 (out) "Constant-current output", 21 BLANK (in) "Blank, all outputs. When BLANK = high level, all constant-current outputs (OUT0-OUT15) are forced off.When BLANK=low level, all constant-current outputs are controlled by the on/off control data in the data latch.LOD and PTW (See Datasheet)", 22 SOUT (out) "Serial data onput. This output is connected to the MSB of the on/off data shift register .SOUT data changes at the rising edge of SCLK.", 23 IREF (in) "Constant-current value setting.OUT0-OUT15 sink Constant-current is set to desired value by connection to an external resistor between IREF and GND.", 24 VCC (power) "Power-supply voltage"